# Altium schematic symbol library OSCILL_16MHz.SchLib: 1 symbol
Pins are listed as number, name and electrical type; pins without a type are passive.

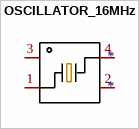
[diagram p0: symbol OSCILLATOR_16MHz]

## OSCILLATOR_16MHz
designator *
XXHBBCNANF-16.000000MHZ
footprint PCBComponent_1
pins: 1, 2, 3, 4